# Altium footprint library IMTP Разъемы.PcbLib: 43 footprints (part 2 of 3)
Each footprint in its own frame and in the unit in brackets; x right, y up, seen from the top. Pads: shape width x height; smd on the part's side, far side on the other; paste and mask are expansions set on the pad; w line width, h text height; cw(c..) or ccw(c..) is an arc to the next point about the centre after c.
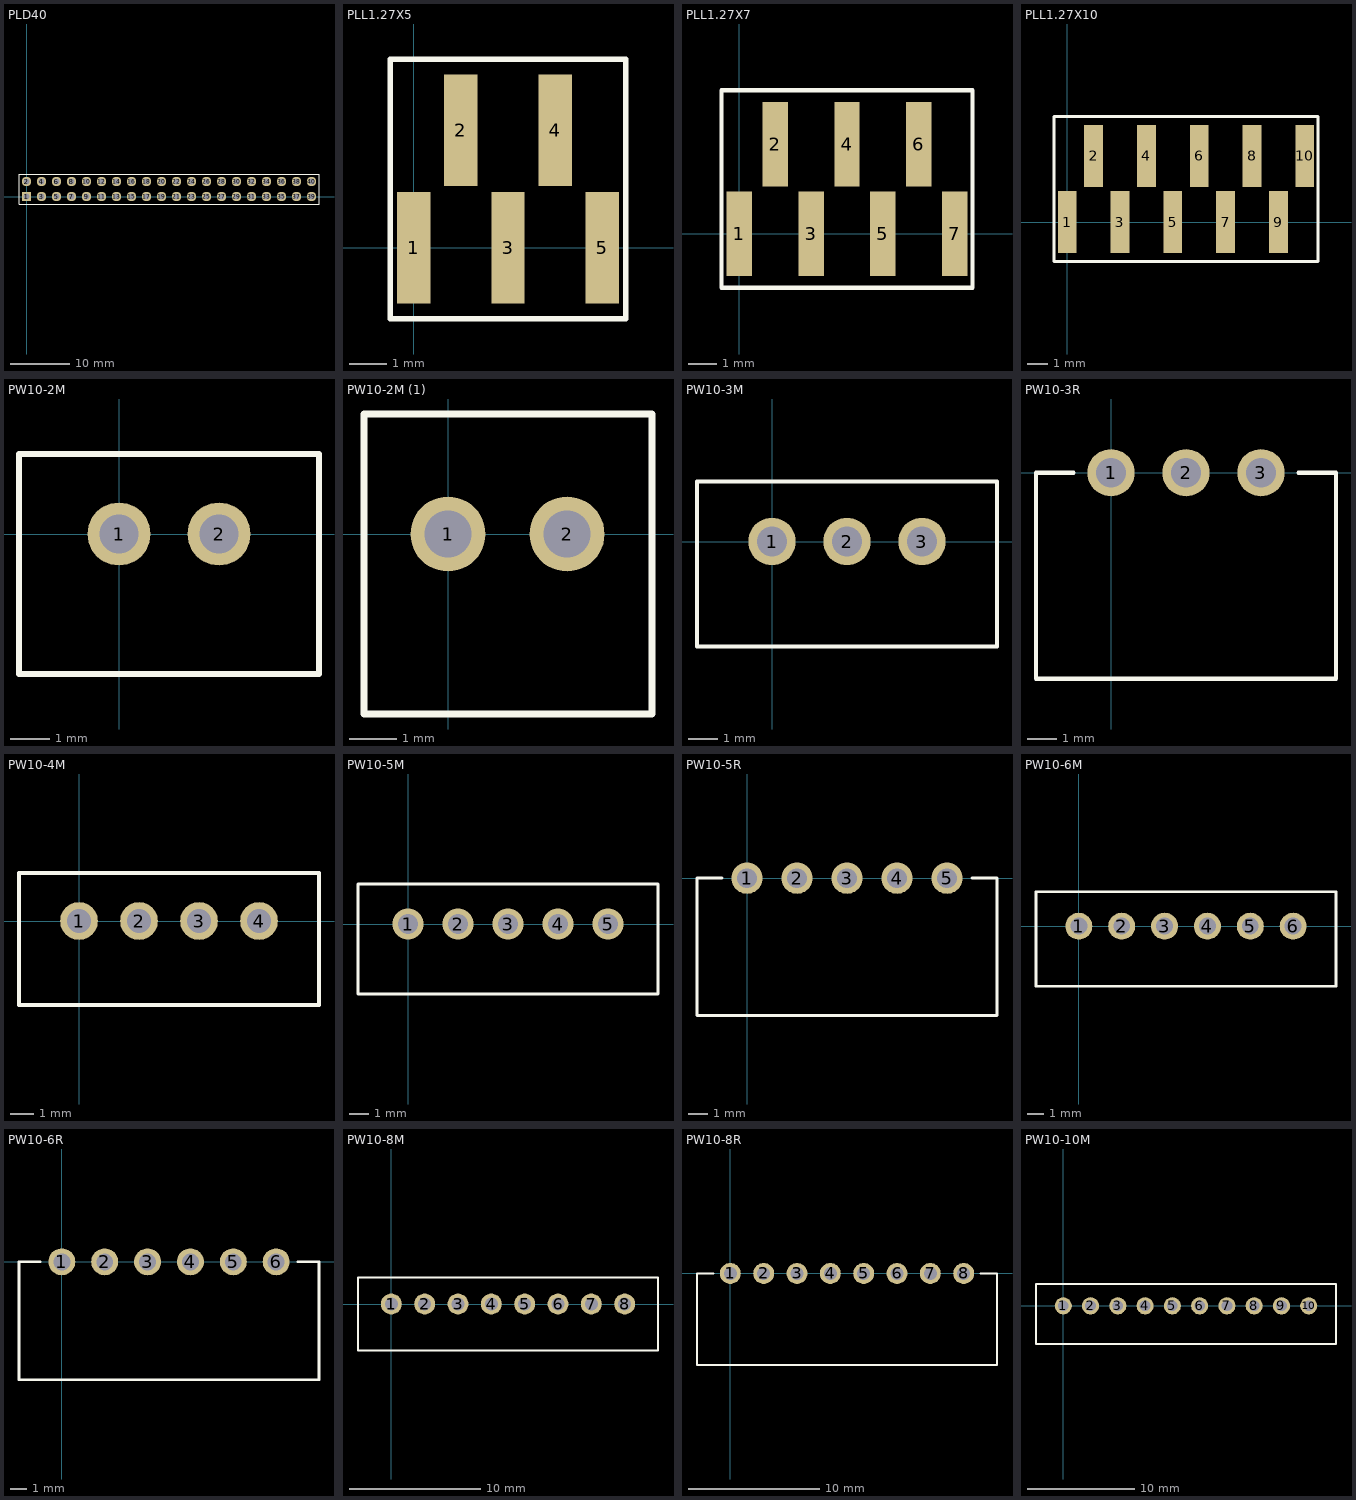
[diagram p1: the footprints below, top view; thin cyan lines are the x and y axes]

## PLD40 [mm]
height 9
pads (40):
  rect 1.6x1.6 hole 1 mask+0.102: 1(0,0)
  round 1.6 hole 1 mask+0.102: 2(0,2.54) 3(2.54,0) 4(2.54,2.54) 5(5.08,0) 6(5.08,2.54) 7(7.62,0) 8(7.62,2.54) 9(10.16,0) 10(10.16,2.54) 11(12.7,0) 12(12.7,2.54) 13(15.24,0) 14(15.24,2.54) 15(17.78,0) 16(17.78,2.54) 17(20.32,0) 18(20.32,2.54) 19(22.86,0) 20(22.86,2.54) 21(25.4,0) 22(25.4,2.54) 23(27.94,0) 24(27.94,2.54) 25(30.48,0) 26(30.48,2.54) 27(33.02,0) 28(33.02,2.54) 29(35.56,0) 30(35.56,2.54) 31(38.1,0) 32(38.1,2.54) 33(40.64,0) 34(40.64,2.54) 35(43.18,0) 36(43.18,2.54) 37(45.72,0) 38(45.72,2.54) 39(48.26,0) 40(48.26,2.54)
Top Overlay:
  lines w0.15: -1.27,-1.27 -1.27,3.81 49.53,3.81 49.53,-1.27 -1.27,-1.27
3D body: height 10, standoff -3, extent -0.254,2.286 0.254,2.794
3D body: height 10, standoff -3, extent 17.526,-0.254 18.034,0.254
3D body: height 10, standoff -3, extent 17.526,2.286 18.034,2.794
3D body: height 10, standoff -3, extent 14.986,-0.254 15.494,0.254
3D body: height 10, standoff -3, extent 14.986,2.286 15.494,2.794
3D body: height 10, standoff -3, extent 12.446,-0.254 12.954,0.254
3D body: height 10, standoff -3, extent 12.446,2.286 12.954,2.794
3D body: height 10, standoff -3, extent 9.906,-0.254 10.414,0.254
3D body: height 10, standoff -3, extent 9.906,2.286 10.414,2.794
3D body: height 10, standoff -3, extent 7.366,-0.254 7.874,0.254
3D body: height 10, standoff -3, extent 7.366,2.286 7.874,2.794
3D body: height 10, standoff -3, extent 4.826,-0.254 5.334,0.254
3D body: height 10, standoff -3, extent 2.286,-0.254 2.794,0.254
3D body: height 10, standoff -3, extent 4.826,2.286 5.334,2.794
3D body: height 10, standoff -3, extent 2.286,2.286 2.794,2.794
3D body: height 10, standoff -3, extent -0.254,-0.254 0.254,0.254
3D body: height 2.5, standoff 0.1, extent -1.27,-1.27 49.53,3.81
3D body: height 10, standoff -3, extent 20.066,-0.254 20.574,0.254
3D body: height 10, standoff -3, extent 22.606,2.286 23.114,2.794
3D body: height 10, standoff -3, extent 25.146,2.286 25.654,2.794
3D body: height 10, standoff -3, extent 22.606,-0.254 23.114,0.254
3D body: height 10, standoff -3, extent 25.146,-0.254 25.654,0.254
3D body: height 10, standoff -3, extent 27.686,2.286 28.194,2.794
3D body: height 10, standoff -3, extent 27.686,-0.254 28.194,0.254
3D body: height 10, standoff -3, extent 30.226,2.286 30.734,2.794
3D body: height 10, standoff -3, extent 30.226,-0.254 30.734,0.254
3D body: height 10, standoff -3, extent 32.766,2.286 33.274,2.794
3D body: height 10, standoff -3, extent 32.766,-0.254 33.274,0.254
3D body: height 10, standoff -3, extent 35.306,2.286 35.814,2.794
3D body: height 10, standoff -3, extent 35.306,-0.254 35.814,0.254
3D body: height 10, standoff -3, extent 37.846,2.286 38.354,2.794
3D body: height 10, standoff -3, extent 37.846,-0.254 38.354,0.254
3D body: height 10, standoff -3, extent 20.066,2.286 20.574,2.794
3D body: height 10, standoff -3, extent 48.006,-0.254 48.514,0.254
3D body: height 10, standoff -3, extent 48.006,2.286 48.514,2.794
3D body: height 10, standoff -3, extent 45.466,-0.254 45.974,0.254
3D body: height 10, standoff -3, extent 45.466,2.286 45.974,2.794
3D body: height 10, standoff -3, extent 42.926,-0.254 43.434,0.254
3D body: height 10, standoff -3, extent 42.926,2.286 43.434,2.794
3D body: height 10, standoff -3, extent 40.386,-0.254 40.894,0.254
3D body: height 10, standoff -3, extent 40.386,2.286 40.894,2.794

## PLL1.27X5 [mm]
height 6
pads (5):
  rect 0.9x3 smd: 1(0,0) 2(1.27,3.175) 3(2.54,0) 4(3.81,3.175) 5(5.08,0)
Top Overlay:
  lines w0.15: -0.635,-1.905 -0.635,5.08 5.715,5.08 5.715,-1.905 -0.635,-1.905
3D body: height 5.4, standoff 0.1, extent -0.254,1.397 0.254,1.905
3D body: height 2.5, standoff 0.1, extent -0.635,0 5.715,3.175
3D body: height 5.4, standoff 0.1, extent 1.016,1.397 1.524,1.905
3D body: height 5.4, standoff 0.1, extent 2.286,1.397 2.794,1.905
3D body: height 5.4, standoff 0.1, extent 3.556,1.397 4.064,1.905
3D body: height 5.4, standoff 0.1, extent 4.826,1.397 5.334,1.905

## PLL1.27X7 [mm]
height 6
pads (7):
  rect 0.9x3 smd: 1(0,0) 2(1.27,3.175) 3(2.54,0) 4(3.81,3.175) 5(5.08,0) 6(6.35,3.175) 7(7.62,0)
Top Overlay:
  lines w0.15: -0.635,-1.905 8.255,-1.905 8.255,5.08 -0.635,5.08 -0.635,-1.905
3D body: height 5.5, standoff 0, extent 7.366,1.397 7.874,1.905
3D body: height 5.5, standoff 0, extent 6.096,1.397 6.604,1.905
3D body: height 5.5, standoff 0, extent 4.826,1.397 5.334,1.905
3D body: height 5.5, standoff 0, extent 3.556,1.397 4.064,1.905
3D body: height 5.5, standoff 0, extent 2.286,1.397 2.794,1.905
3D body: height 5.5, standoff 0, extent 1.016,1.397 1.524,1.905
3D body: height 2.5, standoff 0.1, extent -0.635,0 8.255,3.175
3D body: height 5.5, standoff 0, extent -0.254,1.397 0.254,1.905

## PLL1.27X10 [mm]
height 6
pads (10):
  rect 0.9x3 smd: 1(0,0) 2(1.27,3.175) 3(2.54,0) 4(3.81,3.175) 5(5.08,0) 6(6.35,3.175) 7(7.62,0) 8(8.89,3.175) 9(10.16,0) 10(11.43,3.175)
Top Overlay:
  lines w0.15: -0.635,-1.905 12.065,-1.905 12.065,5.08 -0.635,5.08 -0.635,-1.905
3D body: height 5.5, standoff 0, extent 11.176,1.397 11.684,1.905
3D body: height 5.5, standoff 0, extent 9.906,1.397 10.414,1.905
3D body: height 5.5, standoff 0, extent 8.636,1.397 9.144,1.905
3D body: height 5.5, standoff 0, extent 7.366,1.397 7.874,1.905
3D body: height 5.5, standoff 0, extent 6.096,1.397 6.604,1.905
3D body: height 5.5, standoff 0, extent 4.826,1.397 5.334,1.905
3D body: height 5.5, standoff 0, extent 3.556,1.397 4.064,1.905
3D body: height 5.5, standoff 0, extent 2.286,1.397 2.794,1.905
3D body: height 5.5, standoff 0, extent 1.016,1.397 1.524,1.905
3D body: height 2.5, standoff 0.1, extent -0.635,0 12.065,3.175
3D body: height 5.5, standoff 0, extent -0.254,1.397 0.254,1.905

## PW10-2M [mm]
height 7
pads (2):
  round 1.6 hole 1: 1(0,0) 2(2.54,0)
Top Overlay:
  lines w0.15: -2.54,-3.556 -2.54,2.032 5.08,2.032 5.08,-3.556 -2.54,-3.556
3D body: height 2, standoff 0.1, extent -2.54,-3.556 5.08,2.032
3D body: height 7, standoff -3, extent 2.286,-0.254 2.794,0.254
3D body: height 7, standoff -3, extent -0.254,-0.254 0.254,0.254
3D body: height 7, standoff 0.1, extent -2.54,-3.556 5.08,0.508
3D body: height 7, standoff 0.1, extent -2.54,1.524 -0.508,2.032
3D body: height 7, standoff 0.1, extent 3.048,1.524 5.08,2.032

## PW10-2M (1) [mm]
height 11.5
pads (2):
  round 1.6 hole 1: 1(0,0) 2(2.54,0)
Top Overlay:
  lines w0.15: -1.792,-3.84 -1.792,-3.668 -1.792,2.56 4.352,2.56 4.352,-3.84 -1.792,-3.84
3D body: height 3, standoff 0.1, extent -1.792,-3.84 4.352,2.56
3D body: height 10.5, standoff -3, extent 2.286,-0.254 2.794,0.254
3D body: height 10.5, standoff -3, extent -0.254,-0.254 0.254,0.254
3D body: height 11.5, standoff 0.1, extent 0,1.536 2.56,2.56

## PW10-3M [mm]
height 7
pads (3):
  round 1.6 hole 1: 1(0,0) 2(2.54,0) 3(5.08,0)
Top Overlay:
  lines w0.15: -2.54,-3.556 7.62,-3.556 7.62,2.032 -2.54,2.032 -2.54,-3.556
3D body: height 7, standoff -3, extent 4.826,-0.254 5.334,0.254
3D body: height 7, standoff -3, extent 2.286,-0.254 2.794,0.254
3D body: height 7, standoff -3, extent -0.254,-0.254 0.254,0.254
3D body: height 7, standoff 0.1, extent -2.54,-3.556 7.62,0.508
3D body: height 7, standoff 0.1, extent -2.54,1.524 -0.508,2.032
3D body: height 7, standoff 0.1, extent 5.588,1.524 7.62,2.032
3D body: height 7, standoff 0.1, extent 1.016,1.524 4.064,2.032
3D body: height 2, standoff 0.1, extent -2.54,-3.556 7.62,2.032

## PW10-3R [mm]
height 6
pads (3):
  round 1.6 hole 1: 1(0,0) 2(2.54,0) 3(5.08,0)
Top Overlay:
  lines w0.15: -1.27,0 -2.54,0 -2.54,-6.985 7.62,-6.985 7.62,0 6.35,0
3D body: height 6, standoff 0.1, extent -2.54,-6.985 7.62,0

## PW10-4M [mm]
height 7
pads (4):
  round 1.6 hole 1: 1(0,0) 2(2.54,0) 3(5.08,0) 4(7.62,0)
Top Overlay:
  lines w0.15: -2.54,-3.556 -2.54,2.032 10.16,2.032 10.16,-3.556 -2.54,-3.556
3D body: height 2, standoff 0.1, extent -2.54,-3.556 10.16,2.032
3D body: height 7, standoff 0.1, extent 1.016,1.524 6.604,2.032
3D body: height 7, standoff 0.1, extent 8.128,1.524 10.16,2.032
3D body: height 7, standoff 0.1, extent -2.54,1.524 -0.508,2.032
3D body: height 7, standoff 0.1, extent -2.54,-3.556 10.16,0.508
3D body: height 7, standoff -3, extent -0.254,-0.254 0.254,0.254
3D body: height 7, standoff -3, extent 2.286,-0.254 2.794,0.254
3D body: height 7, standoff -3, extent 4.826,-0.254 5.334,0.254
3D body: height 7, standoff -3, extent 7.366,-0.254 7.874,0.254

## PW10-5M [mm]
height 7
pads (5):
  round 1.6 hole 1: 1(0,0) 2(2.54,0) 3(5.08,0) 4(7.62,0) 5(10.16,0)
Top Overlay:
  lines w0.15: -2.54,-3.556 12.7,-3.556 12.7,2.032 -2.54,2.032 -2.54,-3.556
3D body: height 7, standoff 0.1, extent 1.016,1.524 9.144,2.032
3D body: height 7, standoff 0.1, extent 10.668,1.524 12.7,2.032
3D body: height 7, standoff 0.1, extent -2.54,1.524 -0.508,2.032
3D body: height 7, standoff -3, extent -0.254,-0.254 0.254,0.254
3D body: height 7, standoff -3, extent 2.286,-0.254 2.794,0.254
3D body: height 7, standoff -3, extent 4.826,-0.254 5.334,0.254
3D body: height 7, standoff -3, extent 7.366,-0.254 7.874,0.254
3D body: height 7, standoff -3, extent 9.906,-0.254 10.414,0.254
3D body: height 2, standoff 0.1, extent -2.54,-3.556 12.7,2.032
3D body: height 7, standoff 0.1, extent -2.54,-3.556 12.7,0.508

## PW10-5R [mm]
height 6
pads (5):
  round 1.6 hole 1: 1(0,0) 2(2.54,0) 3(5.08,0) 4(7.62,0) 5(10.16,0)
Top Overlay:
  lines w0.15: -1.27,0 -2.54,0 -2.54,-6.985 12.7,-6.985 12.7,0 11.43,0
3D body: height 6, standoff 0.1, extent -2.54,-6.985 12.7,0

## PW10-6M [mm]
pads (6):
  round 1.6 hole 1: 1(0,0) 2(2.54,0) 3(5.08,0) 4(7.62,0) 5(10.16,0) 6(12.7,0)
Top Overlay:
  lines w0.15: -2.54,-3.556 15.24,-3.556 15.24,2.032 -2.54,2.032 -2.54,-3.556
3D body: height 2, standoff 0.1, extent -2.54,-3.556 15.24,2.032
3D body: height 7, standoff 0.1, extent -2.54,-3.556 15.24,0.508
3D body: height 7, standoff 0.1, extent -2.54,1.524 -0.508,2.032
3D body: height 7, standoff 0.1, extent 13.208,1.524 15.24,2.032
3D body: height 7, standoff 0.1, extent 1.016,1.524 11.684,2.032
3D body: height 7, standoff -3, extent -0.254,-0.254 0.254,0.254
3D body: height 7, standoff -3, extent 2.286,-0.254 2.794,0.254
3D body: height 7, standoff -3, extent 4.826,-0.254 5.334,0.254
3D body: height 7, standoff -3, extent 7.366,-0.254 7.874,0.254
3D body: height 7, standoff -3, extent 9.906,-0.254 10.414,0.254
3D body: height 7, standoff -3, extent 12.446,-0.254 12.954,0.254

## PW10-6R [mm]
height 6
pads (6):
  round 1.6 hole 1: 1(0,0) 2(2.54,0) 3(5.08,0) 4(7.62,0) 5(10.16,0) 6(12.7,0)
Top Overlay:
  lines w0.15: -1.27,0 -2.54,0 -2.54,-6.985 15.24,-6.985 15.24,0 13.97,0
3D body: height 6, standoff 0.1, extent -2.54,-6.985 15.24,0

## PW10-8M [mm]
height 7
pads (8):
  round 1.6 hole 1: 1(0,0) 2(2.54,0) 3(5.08,0) 4(7.62,0) 5(10.16,0) 6(12.7,0) 7(15.24,0) 8(17.78,0)
Top Overlay:
  lines w0.15: -2.54,-3.3 -2.54,2.032 ; -2.54,2.032 20.32,2.032 20.32,-3.556 -2.54,-3.556 -2.54,2.032
3D body: height 7, standoff 0.1, extent 1.016,1.524 16.764,2.032
3D body: height 7, standoff 0.1, extent 18.288,1.524 20.32,2.032
3D body: height 7, standoff 0.1, extent -2.54,1.524 -0.508,2.032
3D body: height 7, standoff -3, extent -0.254,-0.254 0.254,0.254
3D body: height 7, standoff -3, extent 2.286,-0.254 2.794,0.254
3D body: height 7, standoff -3, extent 4.826,-0.254 5.334,0.254
3D body: height 7, standoff -3, extent 7.366,-0.254 7.874,0.254
3D body: height 7, standoff -3, extent 9.906,-0.254 10.414,0.254
3D body: height 7, standoff -3, extent 12.446,-0.254 12.954,0.254
3D body: height 7, standoff -3, extent 14.986,-0.254 15.494,0.254
3D body: height 7, standoff -3, extent 17.526,-0.254 18.034,0.254
3D body: height 2, standoff 0.1, extent -2.54,-3.556 20.32,2.032
3D body: height 7, standoff 0.1, extent -2.54,-3.556 20.32,0.508

## PW10-8R [mm]
height 6
pads (8):
  round 1.6 hole 1: 1(0,0) 2(2.54,0) 3(5.08,0) 4(7.62,0) 5(10.16,0) 6(12.7,0) 7(15.24,0) 8(17.78,0)
Top Overlay:
  lines w0.15: -1.27,0 -2.54,0 -2.54,-6.985 20.32,-6.985 20.32,0 19.05,0
3D body: height 6, standoff 0.1, extent -2.54,-6.985 20.32,0

## PW10-10M [mm]
pads (10):
  round 1.6 hole 1: 1(0,0) 2(2.54,0) 3(5.08,0) 4(7.62,0) 5(10.16,0) 6(12.7,0) 7(15.24,0) 8(17.78,0) 9(20.32,0) 10(22.86,0)
Top Overlay:
  lines w0.15: -2.54,-3.3 -2.54,2.032 ; -2.54,2.032 25.4,2.032 25.4,-3.556 -2.54,-3.556 -2.54,2.032
3D body: height 7, standoff 0.1, extent 1.016,1.524 21.844,2.032
3D body: height 7, standoff 0.1, extent 23.368,1.524 25.4,2.032
3D body: height 7, standoff 0.1, extent -2.54,1.524 -0.508,2.032
3D body: height 7, standoff 0.1, extent -2.54,-3.556 25.4,0.508
3D body: height 7, standoff -3, extent 17.526,-0.254 18.034,0.254
3D body: height 7, standoff -3, extent 14.986,-0.254 15.494,0.254
3D body: height 7, standoff -3, extent 12.446,-0.254 12.954,0.254
3D body: height 7, standoff -3, extent 9.906,-0.254 10.414,0.254
3D body: height 7, standoff -3, extent 7.366,-0.254 7.874,0.254
3D body: height 7, standoff -3, extent 4.826,-0.254 5.334,0.254
3D body: height 7, standoff -3, extent 2.286,-0.254 2.794,0.254
3D body: height 7, standoff -3, extent -0.254,-0.254 0.254,0.254
3D body: height 2, standoff 0.1, extent -2.54,-3.556 25.4,2.032
3D body: height 7, standoff -3, extent 20.066,-0.254 20.574,0.254
3D body: height 7, standoff -3, extent 22.606,-0.254 23.114,0.254